# EAGLE library part CONN,8POS (library 0_MyTempLIB)
PIN HEADER
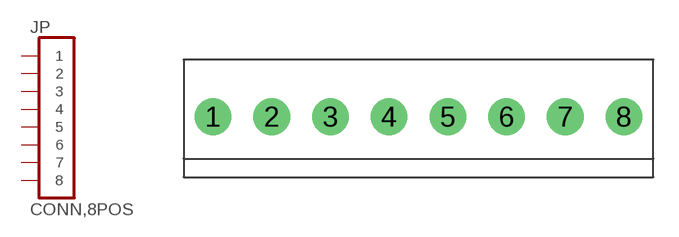
[diagram p9: symbol with the pads of 1X08-3.5MM; footprint 1X08-3.5MM]

Designator prefix JP

## CONN,8POS-3.5MM  [1X08-3.5MM]
1  1  pas
2  2  pas
3  3  pas
4  4  pas
5  5  pas
6  6  pas
7  7  pas
8  8  pas

## Footprint 1X08-3.5MM (pad centres in mm)
drill 1 pad 2.184: 1 -12.25,0; 2 -8.75,0; 3 -5.25,0; 4 -1.75,0; 5 1.75,0; 6 5.25,0; 7 8.75,0; 8 12.25,0